# Altium footprint library DRV_PcbLib.PcbLib: 11 footprints
Each footprint in its own frame and in the unit in brackets; x right, y up, seen from the top. Pads: shape width x height; smd on the part's side, far side on the other; paste and mask are expansions set on the pad; w line width, h text height; cw(c..) or ccw(c..) is an arc to the next point about the centre after c.
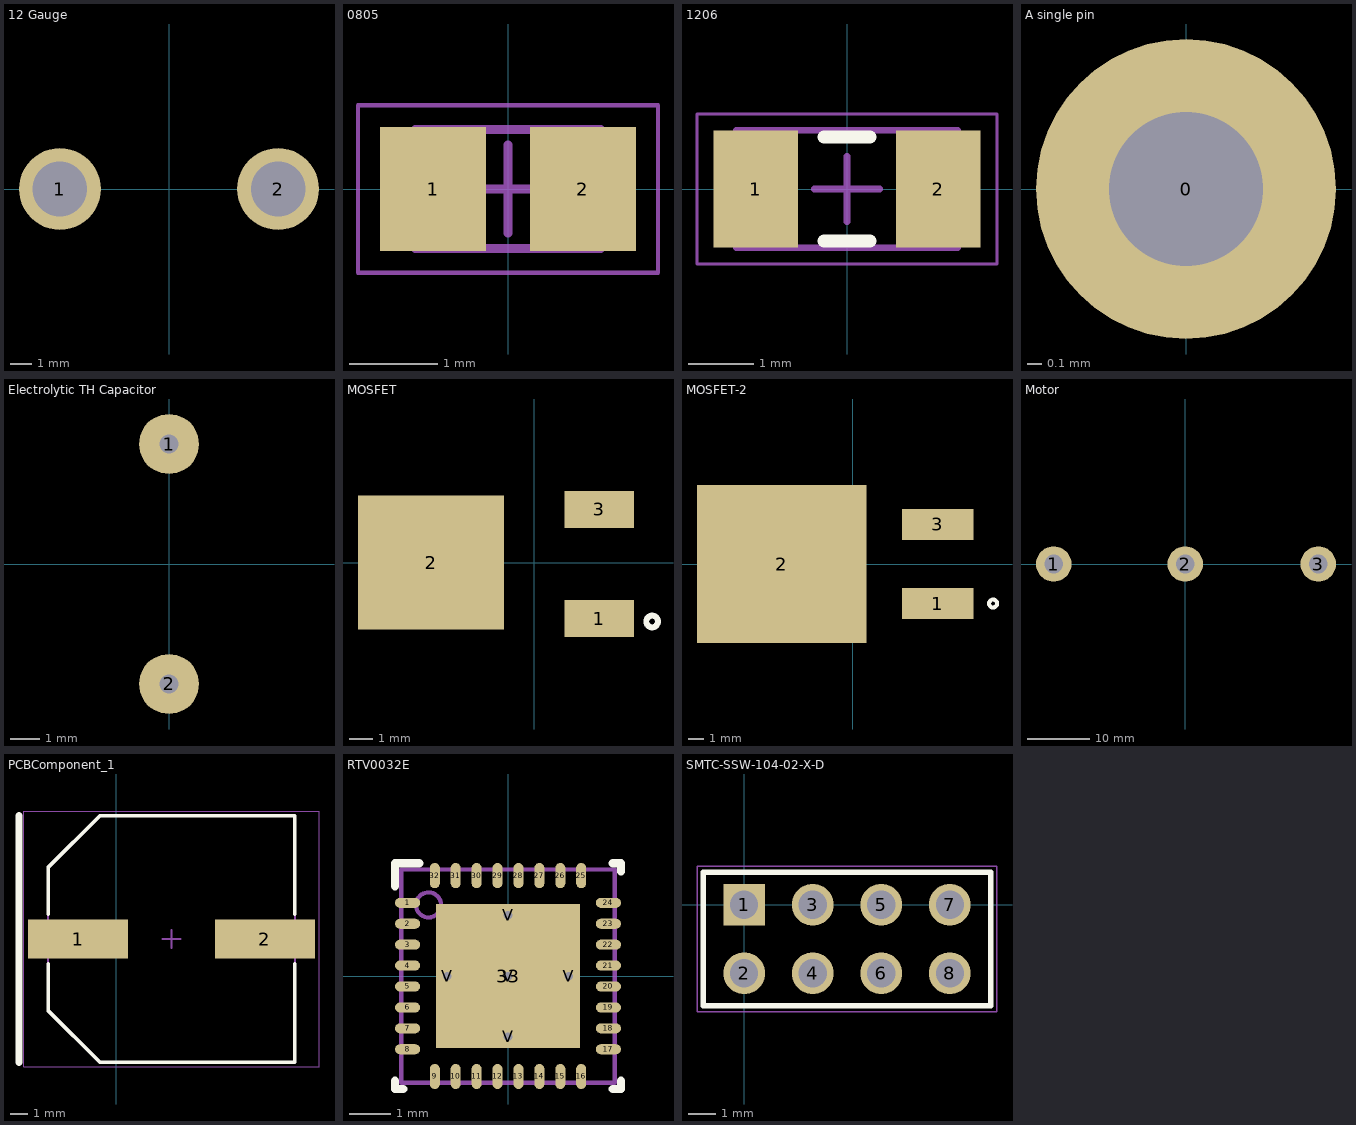
[diagram p0: the footprints below, top view; thin cyan lines are the x and y axes]

## 12 Gauge [mm]
pads (2):
  round 3.81 hole 2.54: 1(-5.08,0) 2(5.08,0)

## 0805 [mm] "0805 SMD, 2-Leads, Body 2.00x1.25mm, IPC Medium Density"
height 0.7
pads (2):
  rect 1.2x1.4 smd: 1(-0.85,0) 2(0.85,0)
Mechanical 13:
  lines w0.1: -1.05,-0.675 1.05,-0.675 1.05,0.675 -1.05,0.675 -1.05,-0.675
Mechanical 15:
  lines w0.05: -1.7,-0.95 1.7,-0.95 1.7,0.95 -1.7,0.95 -1.7,-0.95
  lines w0.1: -0.5,0 0.5,0 ; 0,-0.5 0,0.5
3D body: height 0.7, standoff 0, extent 0.6,-0.675 1.05,0.675
3D body: height 0.7, standoff 0, extent -1.05,-0.675 -0.6,0.675
3D body: height 0.7, standoff 0, extent -0.6,-0.675 0.6,0.675

## 1206 [mm] "SMD, 2-Leads, Body 3.4x1.8mm, IPC Medium Density"
height 0.88
pads (2):
  rect 1.3x1.8 smd: 1(-1.4,0) 2(1.4,0)
Top Overlay:
  lines w0.2: -0.35,-0.8 0.35,-0.8 ; -0.35,0.8 0.35,0.8
Mechanical 13:
  lines w0.1: -1.7,-0.9 1.7,-0.9 1.7,0.9 -1.7,0.9 -1.7,-0.9
Mechanical 15:
  lines w0.05: -2.3,-1.15 2.3,-1.15 2.3,1.15 -2.3,1.15 -2.3,-1.15
  lines w0.1: -0.5,0 0.5,0 ; 0,-0.5 0,0.5
3D body: height 0.88, standoff 0, extent 1.2,-0.9 1.7,0.9
3D body: height 0.88, standoff 0, extent -1.7,-0.9 -1.2,0.9
3D body: height 0.88, standoff 0, extent -1.2,-0.9 1.2,0.9

## A single pin [mil]
pads (1):
  round 80 hole 40.94: 0(0,0)

## Electrolytic TH Capacitor [mil]
pads (2):
  round 80 hole 25: 1(0,160) 2(0,-160)

## MOSFET [mil]
pads (3):
  rect 118x63 smd: 1(110,-95) 3(110,90)
  rect 248x228 smd: 2(-175,0)
Top Overlay:
  circle w10: c200,-100 r10

## MOSFET-2 [mil]
pads (3):
  rect 180x78.74 smd: 1(215,-100) 3(215,100)
  rect 428.35x400 smd: 2(-180,0)
Top Overlay:
  circle w10: c355,-100 r10

## Motor [mil]
pads (3):
  round 225 hole 120: 1(-835,0) 2(0,0) 3(845,0)

## PCBComponent_1 [mm]
pads (2):
  rect 5.6x2.2 smd: 1(-2.13,46.246) 2(8.32,46.246)
Top Overlay:
  lines w0.2: -3.805,44.846 -3.805,42.246 -0.905,39.346 9.995,39.346 9.995,44.846 ; -3.805,47.646 -3.805,50.246 -0.905,53.146 9.995,53.146 9.995,47.646
  lines w0.4: -5.43,39.346 -5.43,53.146
Mechanical 13:
  lines w0.1: -3.805,42.246 -0.905,39.346 9.995,39.346 9.995,53.146 -0.905,53.146 -3.805,50.246 -3.805,42.246
Mechanical 15:
  lines w0.05: -5.155,39.096 -5.155,53.396 11.345,53.396 11.345,39.096 -5.155,39.096
  lines w0.1: 2.595,46.246 3.595,46.246 ; 3.095,45.746 3.095,46.746
3D body "CAPAE146136X145L.step": height 14.5, standoff 0, extent -4.205,39.346 10.395,53.146

## RTV0032E [mm]
pads (38):
  oval 0.6x0.24 smd paste+0 mask+0.051: 1(-2.4,1.75) 2(-2.4,1.25) 3(-2.4,0.75) 4(-2.4,0.25) 5(-2.4,-0.25) 6(-2.4,-0.75) 7(-2.4,-1.25) 8(-2.4,-1.75) 17(2.4,-1.75) 18(2.4,-1.25) 19(2.4,-0.75) 20(2.4,-0.25) 21(2.4,0.25) 22(2.4,0.75) 23(2.4,1.25) 24(2.4,1.75)
  oval 0.24x0.6 smd paste+0 mask+0.051: 9(-1.75,-2.4) 10(-1.25,-2.4) 11(-0.75,-2.4) 12(-0.25,-2.4) 13(0.25,-2.4) 14(0.75,-2.4) 15(1.25,-2.4) 16(1.75,-2.4) 25(1.75,2.4) 26(1.25,2.4) 27(0.75,2.4) 28(0.25,2.4) 29(-0.25,2.4) 30(-0.75,2.4) 31(-1.25,2.4) 32(-1.75,2.4)
  rect 3.45x3.45 smd paste-1.712 mask+0.051: 33(0,0)
  round 0.5 hole 0.203 mask+0.051: V(-1.45,0) V(0,-1.45) V(0,0) V(0,1.45) V(1.45,0)
Top Overlay:
  lines w0.2: -2.7,-2.5 -2.7,-2.7 -2.5,-2.7 ; -2.7,2.15 -2.7,2.7 -2.125,2.7 ; 2.5,-2.7 2.7,-2.7 2.7,-2.5 ; 2.5,2.7 2.7,2.7 2.7,2.5
Top Paste:
  region: 0.1,-0.1 0.1,-1.586 1.586,-1.586 1.586,-0.1
  region: -0.1,-1.586 -0.1,-0.1 -1.586,-0.1 -1.586,-1.586
  region: -0.1,0.1 -0.1,1.586 -1.586,1.586 -1.586,0.1
  region: 0.1,1.586 0.1,0.1 1.586,0.1 1.586,1.586
Mechanical 13:
  circle w0.1: c-1.9,1.7 r0.3
  lines w0.1: -2.55,-2.55 2.55,-2.55 2.55,2.55 -2.55,2.55 -2.55,-2.55
3D body: height 0.25, standoff 0, extent 0,0 0.254,0.254

## SMTC-SSW-104-02-X-D [mm] "SQ Post Socket, 2x4 Pins, Vertical, 2.54mm Pitch, Female"
height 8.51
pads (8):
  rect 1.55x1.55 hole 1.04: 1(0,0)
  round 1.55 hole 1.04: 2(0,-2.54) 3(2.54,0) 4(2.54,-2.54) 5(5.08,0) 6(5.08,-2.54) 7(7.62,0) 8(7.62,-2.54)
Top Overlay:
  lines w0.2: -1.525,-3.745 -1.525,1.205 9.145,1.205 9.145,-3.745 -1.525,-3.745
Mechanical 13:
  lines w0.1: -1.525,-3.745 -1.525,1.205 9.145,1.205 9.145,-3.745 -1.525,-3.745
Mechanical 15:
  lines w0.05: -1.75,-3.97 -1.75,1.43 9.37,1.43 9.37,-3.97 -1.75,-3.97
3D body "SSW-104-02-X-D.step": height 8.51, standoff -4.93, extent -1.524,-3.747 9.144,1.207